# EAGLE library part Z8530 (library 68komputer)
Z8530 - SCC Serial Communications Controller Datasheet <http://www.applelogic.org/files/Z8530UM.pdf>
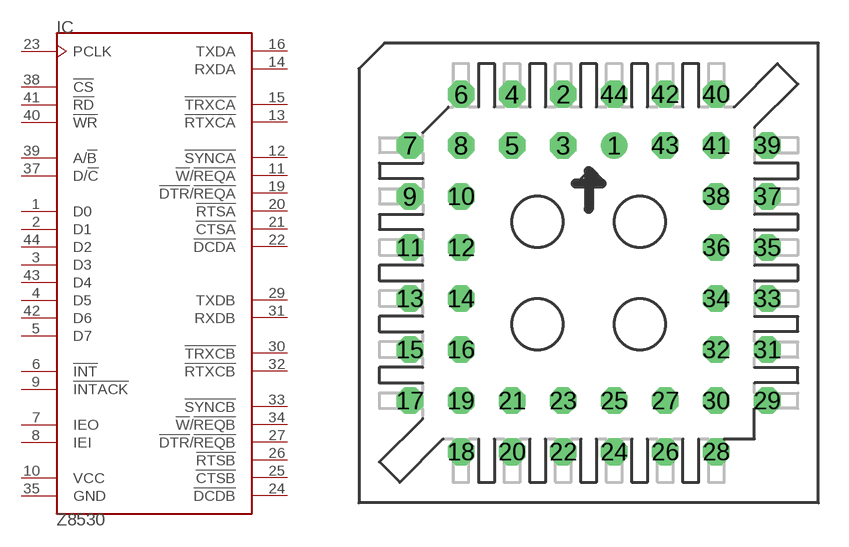
[diagram p12: symbol with the pads of PLCC-S44; footprint PLCC-S44]

Designator prefix IC

## Z8530PLCC44-SOCKET  [PLCC-S44]
1  D0
2  D1
3  D3
4  D5
5  D7
6  !INT  out
7  IEO  out
8  IEI  in
9  !INTACK  in
10  VCC  pwr
11  !W!/!REQA  out
12  !SYNCA
13  !RTXCA  in
14  RXDA  in
15  !TRXCA
16  TXDA  out
19  !DTR!/!REQA  out
20  !RTSA  out
21  !CTSA  in
22  !DCDA  in
23  PCLK  in
24  !DCDB  in
25  !CTSB  in
26  !RTSB  out
27  !DTR!/!REQB  out
29  TXDB  out
30  !TRXCB
31  RXDB  in
32  !RTXCB  in
33  !SYNCB
34  !W!/!REQB  out
35  GND  pwr
37  D/!C  in
38  !CS  in
39  A/!B  in
40  !WR  in
41  !RD  in
42  D6
43  D4
44  D2

## Footprint PLCC-S44 (pad centres in mm)
Plastic Leaded Chip Carrier Socked
drill 0.813: 1 1.27,6.35
drill 0.813 octagon: 2 -1.27,8.89; 3 -1.27,6.35; 4 -3.81,8.89; 5 -3.81,6.35; 6 -6.35,8.89; 7 -8.89,6.35; 8 -6.35,6.35; 9 -8.89,3.81; 10 -6.35,3.81; 11 -8.89,1.27; 12 -6.35,1.27; 13 -8.89,-1.27; 14 -6.35,-1.27; 15 -8.89,-3.81; 16 -6.35,-3.81; 17 -8.89,-6.35; 18 -6.35,-8.89; 19 -6.35,-6.35; 20 -3.81,-8.89; 21 -3.81,-6.35; 22 -1.27,-8.89; 23 -1.27,-6.35; 24 1.27,-8.89; 25 1.27,-6.35; 26 3.81,-8.89; 27 3.81,-6.35; 28 6.35,-8.89; 29 8.89,-6.35; 30 6.35,-6.35; 31 8.89,-3.81; 32 6.35,-3.81; 33 8.89,-1.27; 34 6.35,-1.27; 35 8.89,1.27; 36 6.35,1.27; 37 8.89,3.81; 38 6.35,3.81; 39 8.89,6.35; 40 6.35,8.89; 41 6.35,6.35; 42 3.81,8.89; 43 3.81,6.35; 44 1.27,8.89